# EAGLE library part LM393 (library op-amp)
COMPARATOR
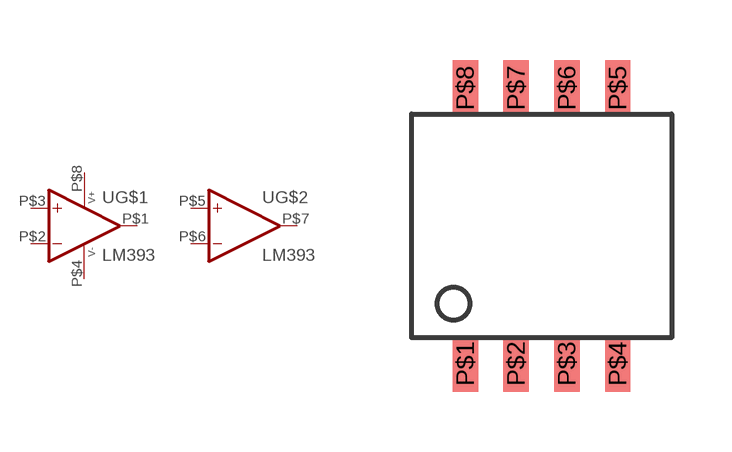
[diagram p43: symbol with the pads of PS(R-PDSO-G8)SO8; footprint PS(R-PDSO-G8)SO8]

Designator prefix U; gates G$1=OPAMP G$2=OPAMP G$3=PWR+-

## LM393 (DIGIKEY: 296-9566-1-ND)  [PS(R-PDSO-G8)SO8]
P$1  G$1:OUT  out
P$2  G$1:-IN  in
P$3  G$1:+IN  in
P$4  G$3:V-  pwr
P$5  G$2:+IN  in
P$6  G$2:-IN  in
P$7  G$2:OUT  out
P$8  G$3:V+  pwr

## Footprint PS(R-PDSO-G8)SO8 (pad centres in mm)
smd 0.635 x 1.4: P$1 -1.905,-3.45; P$2 -0.635,-3.45; P$3 0.635,-3.45; P$4 1.905,-3.45; P$5 1.905,3.45; P$6 0.635,3.45; P$7 -0.635,3.45; P$8 -1.905,3.45